# EAGLE library part 6P6C_TOP (library rj)
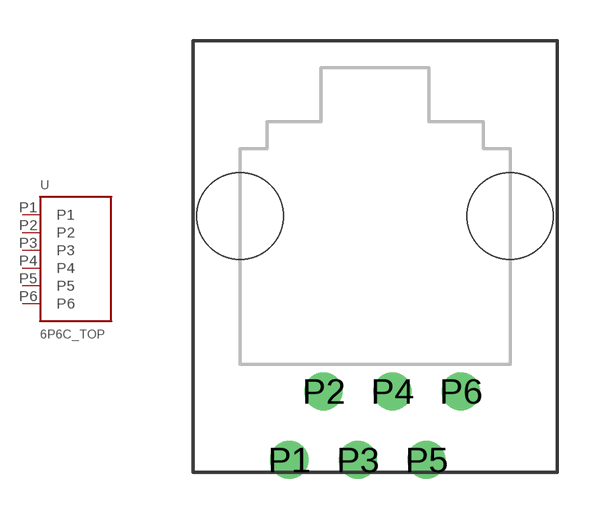
[diagram p3: symbol with the pads of 6P6C_TOP; footprint 6P6C_TOP]

Designator prefix -

## 6P6C_TOP  [6P6C_TOP]
P1  P1
P2  P2
P3  P3
P4  P4
P5  P5
P6  P6

## Footprint 6P6C_TOP (pad centres in mm)
drill 0.9: P1 -3.18,-7.54; P2 -1.905,-5; P3 -0.635,-7.54; P4 0.635,-5; P5 1.905,-7.54; P6 3.175,-5
hole 3.2 at 5,1.5
hole 3.2 at -5,1.5